# Altium schematic symbol library CON-DB9-FE-RA.SchLib: 1 symbol
Pins are listed as number, name and electrical type; pins without a type are passive.

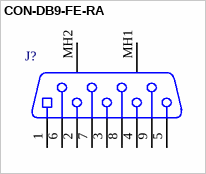
[diagram p0: symbol CON-DB9-FE-RA]

## CON-DB9-FE-RA
designator J?
pins: 1, 2, 3, 4, 5, 6, 7, 8, 9, MH1, MH2